# EAGLE library part TPS55340_PWP_14 (library TPS55340PWP)
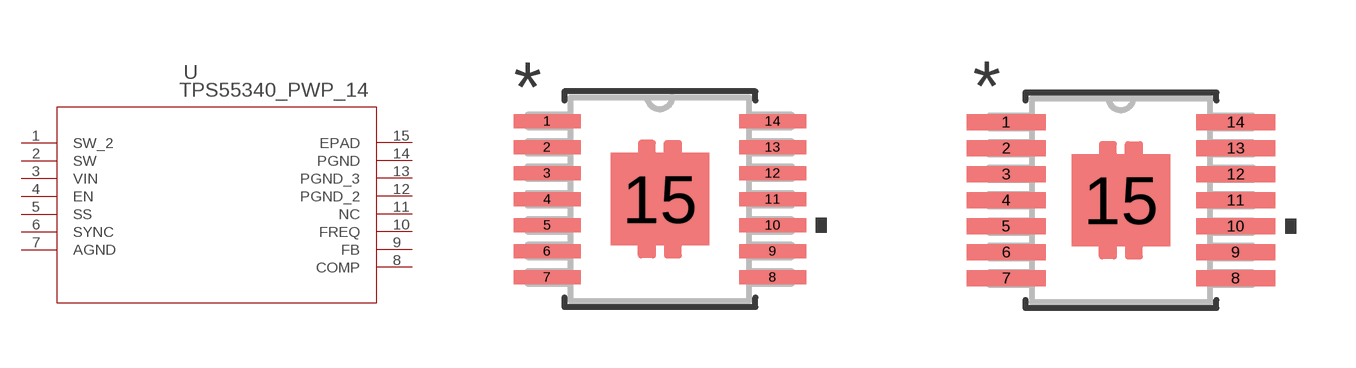
[diagram p0: symbol with the pads of PWP14; footprints PWP14, PWP14-M]

Designator prefix -

## TPS55340_PWP_14 (MANUFACTURER_PART_NUMBER: tps55340_pwp_14; VENDOR: Texas Instruments)  [PWP14]
1  SW_2  pas
2  SW  pas
3  VIN  in
4  EN  pas
5  SS  pas
6  SYNC  pas
7  AGND  pwr
8  COMP  pas
9  FB  pas
10  FREQ  pas
11  NC  nc
12  PGND_2  pwr
13  PGND_3  pwr
14  PGND  pwr
15  EPAD  pas

## TPS55340_PWP_14PWP14-M (MANUFACTURER_PART_NUMBER: tps55340_pwp_14; VENDOR: Texas Instruments)  [PWP14-M]
Pads as for PWP14

## TPS55340_PWP_14PWP14-L (MANUFACTURER_PART_NUMBER: tps55340_pwp_14; VENDOR: Texas Instruments)  [PWP14-L]
Pads as for PWP14

## Footprint PWP14 (pad centres in mm)
smd 1.676 x 0.356: 1 -2.819,1.95; 2 -2.819,1.3; 3 -2.819,0.65; 4 -2.819,0; 5 -2.819,-0.65; 6 -2.819,-1.3; 7 -2.819,-1.95; 8 2.819,-1.95; 9 2.819,-1.3; 10 2.819,-0.65; 11 2.819,0; 12 2.819,0.65; 13 2.819,1.3; 14 2.819,1.95
smd 2.46 x 2.31: 15 0,0

## Footprint PWP14-M (pad centres in mm)
smd 1.981 x 0.406: 1 -2.87,1.95; 2 -2.87,1.3; 3 -2.87,0.65; 4 -2.87,0; 5 -2.87,-0.65; 6 -2.87,-1.3; 7 -2.87,-1.95; 8 2.87,-1.95; 9 2.87,-1.3; 10 2.87,-0.65; 11 2.87,0; 12 2.87,0.65; 13 2.87,1.3; 14 2.87,1.95
smd 2.46 x 2.31: 15 0,0

## Footprint PWP14-L (pad centres in mm)
smd 1.372 x 0.305: 1 -2.769,1.95; 2 -2.769,1.3; 3 -2.769,0.65; 4 -2.769,0; 5 -2.769,-0.65; 6 -2.769,-1.3; 7 -2.769,-1.95; 8 2.769,-1.95; 9 2.769,-1.3; 10 2.769,-0.65; 11 2.769,0; 12 2.769,0.65; 13 2.769,1.3; 14 2.769,1.95
smd 2.46 x 2.31: 15 0,0